# EAGLE library part CSD*? (library ic-TI)
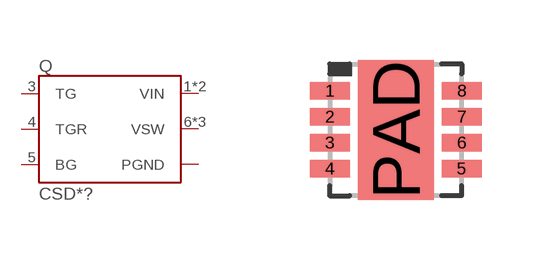
[diagram p32: symbol with the pads of SON8_3.3_0.65; footprint SON8_3.3_0.65]

Designator prefix Q

## CSD87330Q3D (IDS: 20; VDS: 30), CSD87331Q3D (IDS: 15; VDS: 30)  [SON8_3.3_0.65]
1  VIN
2  VIN
3  TG
4  TGR
5  BG
6  VSW
7  VSW
8  VSW
PAD  PGND

## Footprint SON8_3.3_0.65 (pad centres in mm)
smd 1 x 0.44: 1 -1.65,0.975; 2 -1.65,0.325; 3 -1.65,-0.325; 4 -1.65,-0.975; 5 1.65,-0.975; 6 1.65,-0.325; 7 1.65,0.325; 8 1.65,0.975
smd 1.9 x 3.5: PAD 0,0